# Altium schematic symbol library LTC1595.SchLib: 1 symbol
Pins are listed as number, name and electrical type; pins without a type are passive.

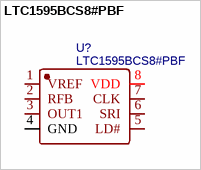
[diagram p0: symbol LTC1595BCS8#PBF]

## LTC1595BCS8#PBF
designator U?
串行 16 位乘法 DAC; Manufacturer: ADI(亚德诺); Contributor: LCSC; Supplier: LCSC; Supplier Part: C676032; Manufacturer Part: LTC1595BCS8#PBF; JLCPCB Part Class: Extended Part; spicePre: U; spiceSymbolName: LTC1595BCS8#PBF
footprint SO-8_L4.9-W3.9-P1.27-LS5.9-BL
pins: 1 VREF, 2 RFB, 3 OUT1, 4 GND, 5 LD#, 6 SRI, 7 CLK, 8 VDD